# EAGLE library part SIM-HOLDER (library candrian)
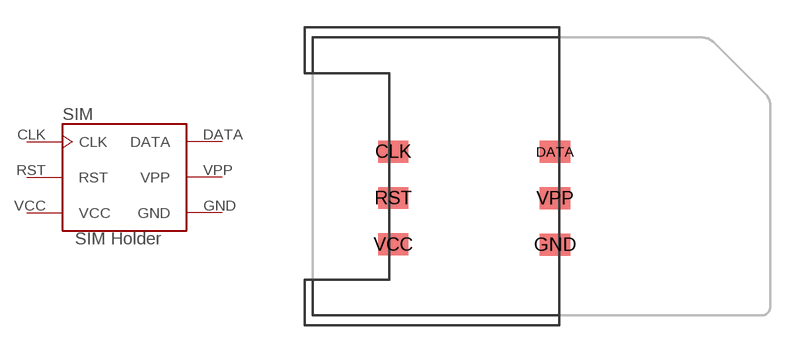
[diagram p2: symbol with the pads of SIM-HOLDER; footprint SIM-HOLDER]

Designator prefix SIM

## SIM-HOLDER  [SIM-HOLDER]
CLK  CLK  in
DATA  DATA
GND  GND  pwr
RST  RST  in
VCC  VCC  pwr
VPP  VPP  pwr

## Footprint SIM-HOLDER (pad centres in mm)
smd 1.65 x 1.2: CLK -8.23,2.63; DATA 0.62,2.62; GND 0.62,-2.46; RST -8.23,0.09; VCC -8.23,-2.45; VPP 0.62,0.08